# EAGLE library part SIM-LOCK (library FansElectronics-SIM)
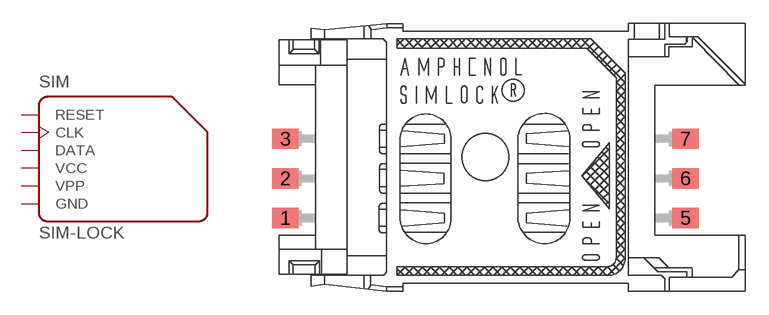
[diagram p0: symbol with the pads of SIM-LOCK; footprint SIM-LOCK]

Designator prefix SIM

## SIM-LOCK-COVER  [SIM-LOCK]
1  VCC  pwr
2  RESET
3  CLK
5  GND  pwr
6  VPP
7  DATA

## Footprint SIM-LOCK (pad centres in mm)
smd 1.7 x 1.3: 1 -12.85,-3.915; 2 -12.85,-1.375; 3 -12.85,1.165; 5 12.85,-3.915; 6 12.85,-1.375; 7 12.85,1.165